# Altium schematic symbol library Connector_Generic.SchLib: 334 symbols (part 2 of 8)
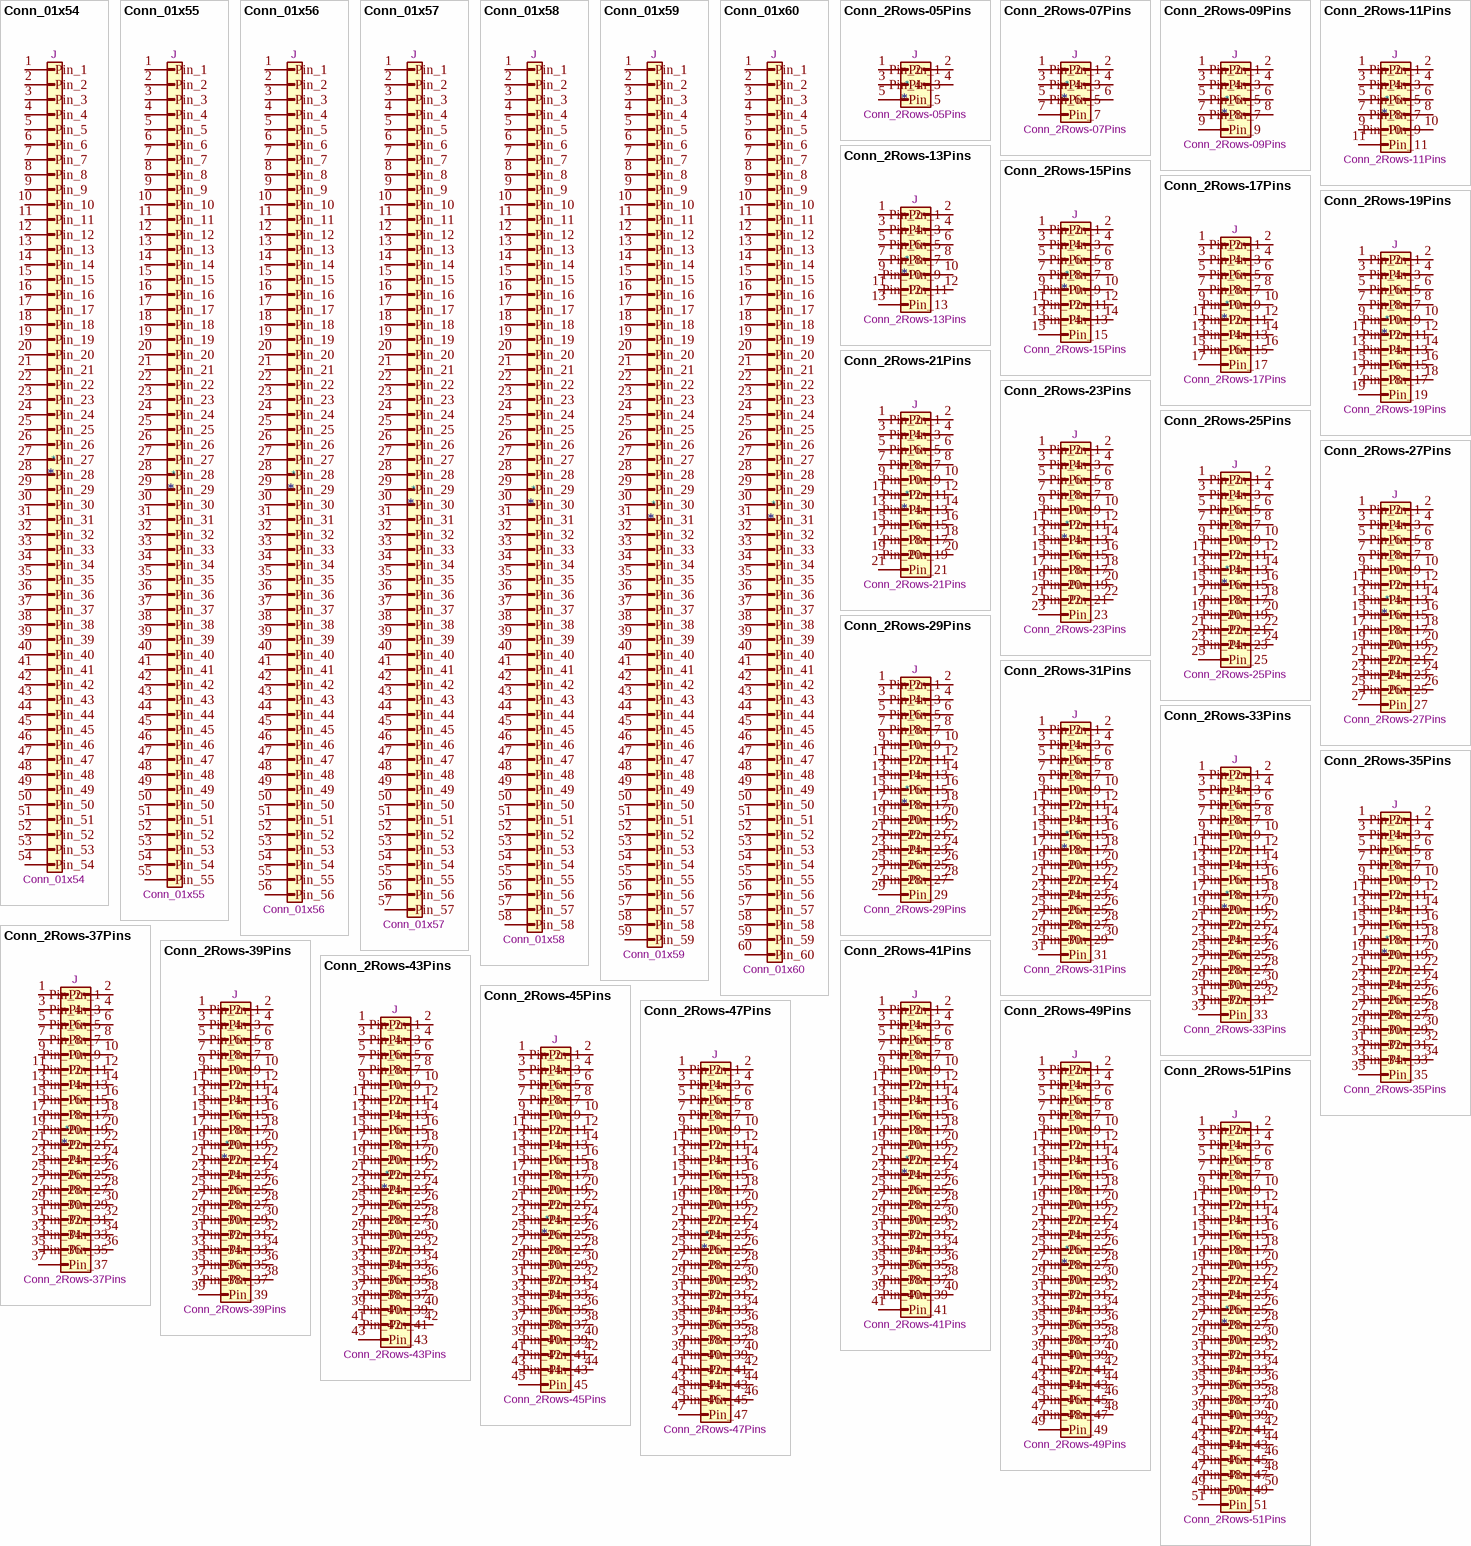
[diagram p17: symbols Conn_01x54 to Conn_2Rows-51Pins]

## Conn_2Rows-31Pins
designator *  value Conn_2Rows-31Pins  Reference: J
Generic connector, double row, 31 pins, odd/even pin numbering scheme (row 1 odd numbers, row 2 even numbers), script generated (kicad-library-utils/schlib/autogen/connector/); ki_fp_filters: Connector*:*2Rows*Pins__* *FCC*2Rows*Pins__*; Datasheet: ~; Description_: Generic connector, double row, 31 pins, odd/even pin numbering scheme (row 1 odd numbers, row 2 even numbers), script generated (kicad-library-utils/schlib/autogen/connector/); ki_keywords: connector
pins: 1 Pin_1, 2 Pin_2, 3 Pin_3, 4 Pin_4, 5 Pin_5, 6 Pin_6, 7 Pin_7, 8 Pin_8, 9 Pin_9, 10 Pin_10, 11 Pin_11, 12 Pin_12, 13 Pin_13, 14 Pin_14, 15 Pin_15, 16 Pin_16, 17 Pin_17, 18 Pin_18, 19 Pin_19, 20 Pin_20, 21 Pin_21, 22 Pin_22, 23 Pin_23, 24 Pin_24, 25 Pin_25, 26 Pin_26, 27 Pin_27, 28 Pin_28, 29 Pin_29, 30 Pin_30, 31 Pin_31

## Conn_2Rows-33Pins
designator *  value Conn_2Rows-33Pins  Reference: J
Generic connector, double row, 33 pins, odd/even pin numbering scheme (row 1 odd numbers, row 2 even numbers), script generated (kicad-library-utils/schlib/autogen/connector/); ki_fp_filters: Connector*:*2Rows*Pins__* *FCC*2Rows*Pins__*; Datasheet: ~; Description_: Generic connector, double row, 33 pins, odd/even pin numbering scheme (row 1 odd numbers, row 2 even numbers), script generated (kicad-library-utils/schlib/autogen/connector/); ki_keywords: connector
pins: 1 Pin_1, 2 Pin_2, 3 Pin_3, 4 Pin_4, 5 Pin_5, 6 Pin_6, 7 Pin_7, 8 Pin_8, 9 Pin_9, 10 Pin_10, 11 Pin_11, 12 Pin_12, 13 Pin_13, 14 Pin_14, 15 Pin_15, 16 Pin_16, 17 Pin_17, 18 Pin_18, 19 Pin_19, 20 Pin_20, 21 Pin_21, 22 Pin_22, 23 Pin_23, 24 Pin_24, 25 Pin_25, 26 Pin_26, 27 Pin_27, 28 Pin_28, 29 Pin_29, 30 Pin_30, 31 Pin_31, 32 Pin_32, 33 Pin_33

## Conn_2Rows-35Pins
designator *  value Conn_2Rows-35Pins  Reference: J
Generic connector, double row, 35 pins, odd/even pin numbering scheme (row 1 odd numbers, row 2 even numbers), script generated (kicad-library-utils/schlib/autogen/connector/); ki_fp_filters: Connector*:*2Rows*Pins__* *FCC*2Rows*Pins__*; Datasheet: ~; Description_: Generic connector, double row, 35 pins, odd/even pin numbering scheme (row 1 odd numbers, row 2 even numbers), script generated (kicad-library-utils/schlib/autogen/connector/); ki_keywords: connector
pins: 1 Pin_1, 2 Pin_2, 3 Pin_3, 4 Pin_4, 5 Pin_5, 6 Pin_6, 7 Pin_7, 8 Pin_8, 9 Pin_9, 10 Pin_10, 11 Pin_11, 12 Pin_12, 13 Pin_13, 14 Pin_14, 15 Pin_15, 16 Pin_16, 17 Pin_17, 18 Pin_18, 19 Pin_19, 20 Pin_20, 21 Pin_21, 22 Pin_22, 23 Pin_23, 24 Pin_24, 25 Pin_25, 26 Pin_26, 27 Pin_27, 28 Pin_28, 29 Pin_29, 30 Pin_30, 31 Pin_31, 32 Pin_32, 33 Pin_33, 34 Pin_34, 35 Pin_35

## Conn_2Rows-37Pins
designator *  value Conn_2Rows-37Pins  Reference: J
Generic connector, double row, 37 pins, odd/even pin numbering scheme (row 1 odd numbers, row 2 even numbers), script generated (kicad-library-utils/schlib/autogen/connector/); ki_fp_filters: Connector*:*2Rows*Pins__* *FCC*2Rows*Pins__*; Datasheet: ~; Description_: Generic connector, double row, 37 pins, odd/even pin numbering scheme (row 1 odd numbers, row 2 even numbers), script generated (kicad-library-utils/schlib/autogen/connector/); ki_keywords: connector
pins: 1 Pin_1, 2 Pin_2, 3 Pin_3, 4 Pin_4, 5 Pin_5, 6 Pin_6, 7 Pin_7, 8 Pin_8, 9 Pin_9, 10 Pin_10, 11 Pin_11, 12 Pin_12, 13 Pin_13, 14 Pin_14, 15 Pin_15, 16 Pin_16, 17 Pin_17, 18 Pin_18, 19 Pin_19, 20 Pin_20, 21 Pin_21, 22 Pin_22, 23 Pin_23, 24 Pin_24, 25 Pin_25, 26 Pin_26, 27 Pin_27, 28 Pin_28, 29 Pin_29, 30 Pin_30, 31 Pin_31, 32 Pin_32, 33 Pin_33, 34 Pin_34, 35 Pin_35, 36 Pin_36, 37 Pin_37

## Conn_2Rows-39Pins
designator *  value Conn_2Rows-39Pins  Reference: J
Generic connector, double row, 39 pins, odd/even pin numbering scheme (row 1 odd numbers, row 2 even numbers), script generated (kicad-library-utils/schlib/autogen/connector/); ki_fp_filters: Connector*:*2Rows*Pins__* *FCC*2Rows*Pins__*; Datasheet: ~; Description_: Generic connector, double row, 39 pins, odd/even pin numbering scheme (row 1 odd numbers, row 2 even numbers), script generated (kicad-library-utils/schlib/autogen/connector/); ki_keywords: connector
pins: 1 Pin_1, 2 Pin_2, 3 Pin_3, 4 Pin_4, 5 Pin_5, 6 Pin_6, 7 Pin_7, 8 Pin_8, 9 Pin_9, 10 Pin_10, 11 Pin_11, 12 Pin_12, 13 Pin_13, 14 Pin_14, 15 Pin_15, 16 Pin_16, 17 Pin_17, 18 Pin_18, 19 Pin_19, 20 Pin_20, 21 Pin_21, 22 Pin_22, 23 Pin_23, 24 Pin_24, 25 Pin_25, 26 Pin_26, 27 Pin_27, 28 Pin_28, 29 Pin_29, 30 Pin_30, 31 Pin_31, 32 Pin_32, 33 Pin_33, 34 Pin_34, 35 Pin_35, 36 Pin_36, 37 Pin_37, 38 Pin_38, 39 Pin_39

## Conn_2Rows-41Pins
designator *  value Conn_2Rows-41Pins  Reference: J
Generic connector, double row, 41 pins, odd/even pin numbering scheme (row 1 odd numbers, row 2 even numbers), script generated (kicad-library-utils/schlib/autogen/connector/); ki_fp_filters: Connector*:*2Rows*Pins__* *FCC*2Rows*Pins__*; Datasheet: ~; Description_: Generic connector, double row, 41 pins, odd/even pin numbering scheme (row 1 odd numbers, row 2 even numbers), script generated (kicad-library-utils/schlib/autogen/connector/); ki_keywords: connector
pins: 1 Pin_1, 2 Pin_2, 3 Pin_3, 4 Pin_4, 5 Pin_5, 6 Pin_6, 7 Pin_7, 8 Pin_8, 9 Pin_9, 10 Pin_10, 11 Pin_11, 12 Pin_12, 13 Pin_13, 14 Pin_14, 15 Pin_15, 16 Pin_16, 17 Pin_17, 18 Pin_18, 19 Pin_19, 20 Pin_20, 21 Pin_21, 22 Pin_22, 23 Pin_23, 24 Pin_24, 25 Pin_25, 26 Pin_26, 27 Pin_27, 28 Pin_28, 29 Pin_29, 30 Pin_30, 31 Pin_31, 32 Pin_32, 33 Pin_33, 34 Pin_34, 35 Pin_35, 36 Pin_36, 37 Pin_37, 38 Pin_38, 39 Pin_39, 40 Pin_40, 41 Pin_41

## Conn_2Rows-43Pins
designator *  value Conn_2Rows-43Pins  Reference: J
Generic connector, double row, 43 pins, odd/even pin numbering scheme (row 1 odd numbers, row 2 even numbers), script generated (kicad-library-utils/schlib/autogen/connector/); ki_fp_filters: Connector*:*2Rows*Pins__* *FCC*2Rows*Pins__*; Datasheet: ~; Description_: Generic connector, double row, 43 pins, odd/even pin numbering scheme (row 1 odd numbers, row 2 even numbers), script generated (kicad-library-utils/schlib/autogen/connector/); ki_keywords: connector
pins: 1 Pin_1, 2 Pin_2, 3 Pin_3, 4 Pin_4, 5 Pin_5, 6 Pin_6, 7 Pin_7, 8 Pin_8, 9 Pin_9, 10 Pin_10, 11 Pin_11, 12 Pin_12, 13 Pin_13, 14 Pin_14, 15 Pin_15, 16 Pin_16, 17 Pin_17, 18 Pin_18, 19 Pin_19, 20 Pin_20, 21 Pin_21, 22 Pin_22, 23 Pin_23, 24 Pin_24, 25 Pin_25, 26 Pin_26, 27 Pin_27, 28 Pin_28, 29 Pin_29, 30 Pin_30, 31 Pin_31, 32 Pin_32, 33 Pin_33, 34 Pin_34, 35 Pin_35, 36 Pin_36, 37 Pin_37, 38 Pin_38, 39 Pin_39, 40 Pin_40, 41 Pin_41, 42 Pin_42, 43 Pin_43

## Conn_2Rows-45Pins
designator *  value Conn_2Rows-45Pins  Reference: J
Generic connector, double row, 45 pins, odd/even pin numbering scheme (row 1 odd numbers, row 2 even numbers), script generated (kicad-library-utils/schlib/autogen/connector/); ki_fp_filters: Connector*:*2Rows*Pins__* *FCC*2Rows*Pins__*; Datasheet: ~; Description_: Generic connector, double row, 45 pins, odd/even pin numbering scheme (row 1 odd numbers, row 2 even numbers), script generated (kicad-library-utils/schlib/autogen/connector/); ki_keywords: connector
pins: 1 Pin_1, 2 Pin_2, 3 Pin_3, 4 Pin_4, 5 Pin_5, 6 Pin_6, 7 Pin_7, 8 Pin_8, 9 Pin_9, 10 Pin_10, 11 Pin_11, 12 Pin_12, 13 Pin_13, 14 Pin_14, 15 Pin_15, 16 Pin_16, 17 Pin_17, 18 Pin_18, 19 Pin_19, 20 Pin_20, 21 Pin_21, 22 Pin_22, 23 Pin_23, 24 Pin_24, 25 Pin_25, 26 Pin_26, 27 Pin_27, 28 Pin_28, 29 Pin_29, 30 Pin_30, 31 Pin_31, 32 Pin_32, 33 Pin_33, 34 Pin_34, 35 Pin_35, 36 Pin_36, 37 Pin_37, 38 Pin_38, 39 Pin_39, 40 Pin_40, 41 Pin_41, 42 Pin_42, 43 Pin_43, 44 Pin_44, 45 Pin_45

## Conn_2Rows-47Pins
designator *  value Conn_2Rows-47Pins  Reference: J
Generic connector, double row, 47 pins, odd/even pin numbering scheme (row 1 odd numbers, row 2 even numbers), script generated (kicad-library-utils/schlib/autogen/connector/); ki_fp_filters: Connector*:*2Rows*Pins__* *FCC*2Rows*Pins__*; Datasheet: ~; Description_: Generic connector, double row, 47 pins, odd/even pin numbering scheme (row 1 odd numbers, row 2 even numbers), script generated (kicad-library-utils/schlib/autogen/connector/); ki_keywords: connector
pins: 1 Pin_1, 2 Pin_2, 3 Pin_3, 4 Pin_4, 5 Pin_5, 6 Pin_6, 7 Pin_7, 8 Pin_8, 9 Pin_9, 10 Pin_10, 11 Pin_11, 12 Pin_12, 13 Pin_13, 14 Pin_14, 15 Pin_15, 16 Pin_16, 17 Pin_17, 18 Pin_18, 19 Pin_19, 20 Pin_20, 21 Pin_21, 22 Pin_22, 23 Pin_23, 24 Pin_24, 25 Pin_25, 26 Pin_26, 27 Pin_27, 28 Pin_28, 29 Pin_29, 30 Pin_30, 31 Pin_31, 32 Pin_32, 33 Pin_33, 34 Pin_34, 35 Pin_35, 36 Pin_36, 37 Pin_37, 38 Pin_38, 39 Pin_39, 40 Pin_40, 41 Pin_41, 42 Pin_42, 43 Pin_43, 44 Pin_44, 45 Pin_45, 46 Pin_46, 47 Pin_47

## Conn_2Rows-49Pins
designator *  value Conn_2Rows-49Pins  Reference: J
Generic connector, double row, 49 pins, odd/even pin numbering scheme (row 1 odd numbers, row 2 even numbers), script generated (kicad-library-utils/schlib/autogen/connector/); ki_fp_filters: Connector*:*2Rows*Pins__* *FCC*2Rows*Pins__*; Datasheet: ~; Description_: Generic connector, double row, 49 pins, odd/even pin numbering scheme (row 1 odd numbers, row 2 even numbers), script generated (kicad-library-utils/schlib/autogen/connector/); ki_keywords: connector
pins: 1 Pin_1, 2 Pin_2, 3 Pin_3, 4 Pin_4, 5 Pin_5, 6 Pin_6, 7 Pin_7, 8 Pin_8, 9 Pin_9, 10 Pin_10, 11 Pin_11, 12 Pin_12, 13 Pin_13, 14 Pin_14, 15 Pin_15, 16 Pin_16, 17 Pin_17, 18 Pin_18, 19 Pin_19, 20 Pin_20, 21 Pin_21, 22 Pin_22, 23 Pin_23, 24 Pin_24, 25 Pin_25, 26 Pin_26, 27 Pin_27, 28 Pin_28, 29 Pin_29, 30 Pin_30, 31 Pin_31, 32 Pin_32, 33 Pin_33, 34 Pin_34, 35 Pin_35, 36 Pin_36, 37 Pin_37, 38 Pin_38, 39 Pin_39, 40 Pin_40, 41 Pin_41, 42 Pin_42, 43 Pin_43, 44 Pin_44, 45 Pin_45, 46 Pin_46, 47 Pin_47, 48 Pin_48, 49 Pin_49

## Conn_2Rows-51Pins
designator *  value Conn_2Rows-51Pins  Reference: J
Generic connector, double row, 51 pins, odd/even pin numbering scheme (row 1 odd numbers, row 2 even numbers), script generated (kicad-library-utils/schlib/autogen/connector/); ki_fp_filters: Connector*:*2Rows*Pins__* *FCC*2Rows*Pins__*; Datasheet: ~; Description_: Generic connector, double row, 51 pins, odd/even pin numbering scheme (row 1 odd numbers, row 2 even numbers), script generated (kicad-library-utils/schlib/autogen/connector/); ki_keywords: connector
pins: 1 Pin_1, 2 Pin_2, 3 Pin_3, 4 Pin_4, 5 Pin_5, 6 Pin_6, 7 Pin_7, 8 Pin_8, 9 Pin_9, 10 Pin_10, 11 Pin_11, 12 Pin_12, 13 Pin_13, 14 Pin_14, 15 Pin_15, 16 Pin_16, 17 Pin_17, 18 Pin_18, 19 Pin_19, 20 Pin_20, 21 Pin_21, 22 Pin_22, 23 Pin_23, 24 Pin_24, 25 Pin_25, 26 Pin_26, 27 Pin_27, 28 Pin_28, 29 Pin_29, 30 Pin_30, 31 Pin_31, 32 Pin_32, 33 Pin_33, 34 Pin_34, 35 Pin_35, 36 Pin_36, 37 Pin_37, 38 Pin_38, 39 Pin_39, 40 Pin_40, 41 Pin_41, 42 Pin_42, 43 Pin_43, 44 Pin_44, 45 Pin_45, 46 Pin_46, 47 Pin_47, 48 Pin_48, 49 Pin_49, 50 Pin_50, 51 Pin_51

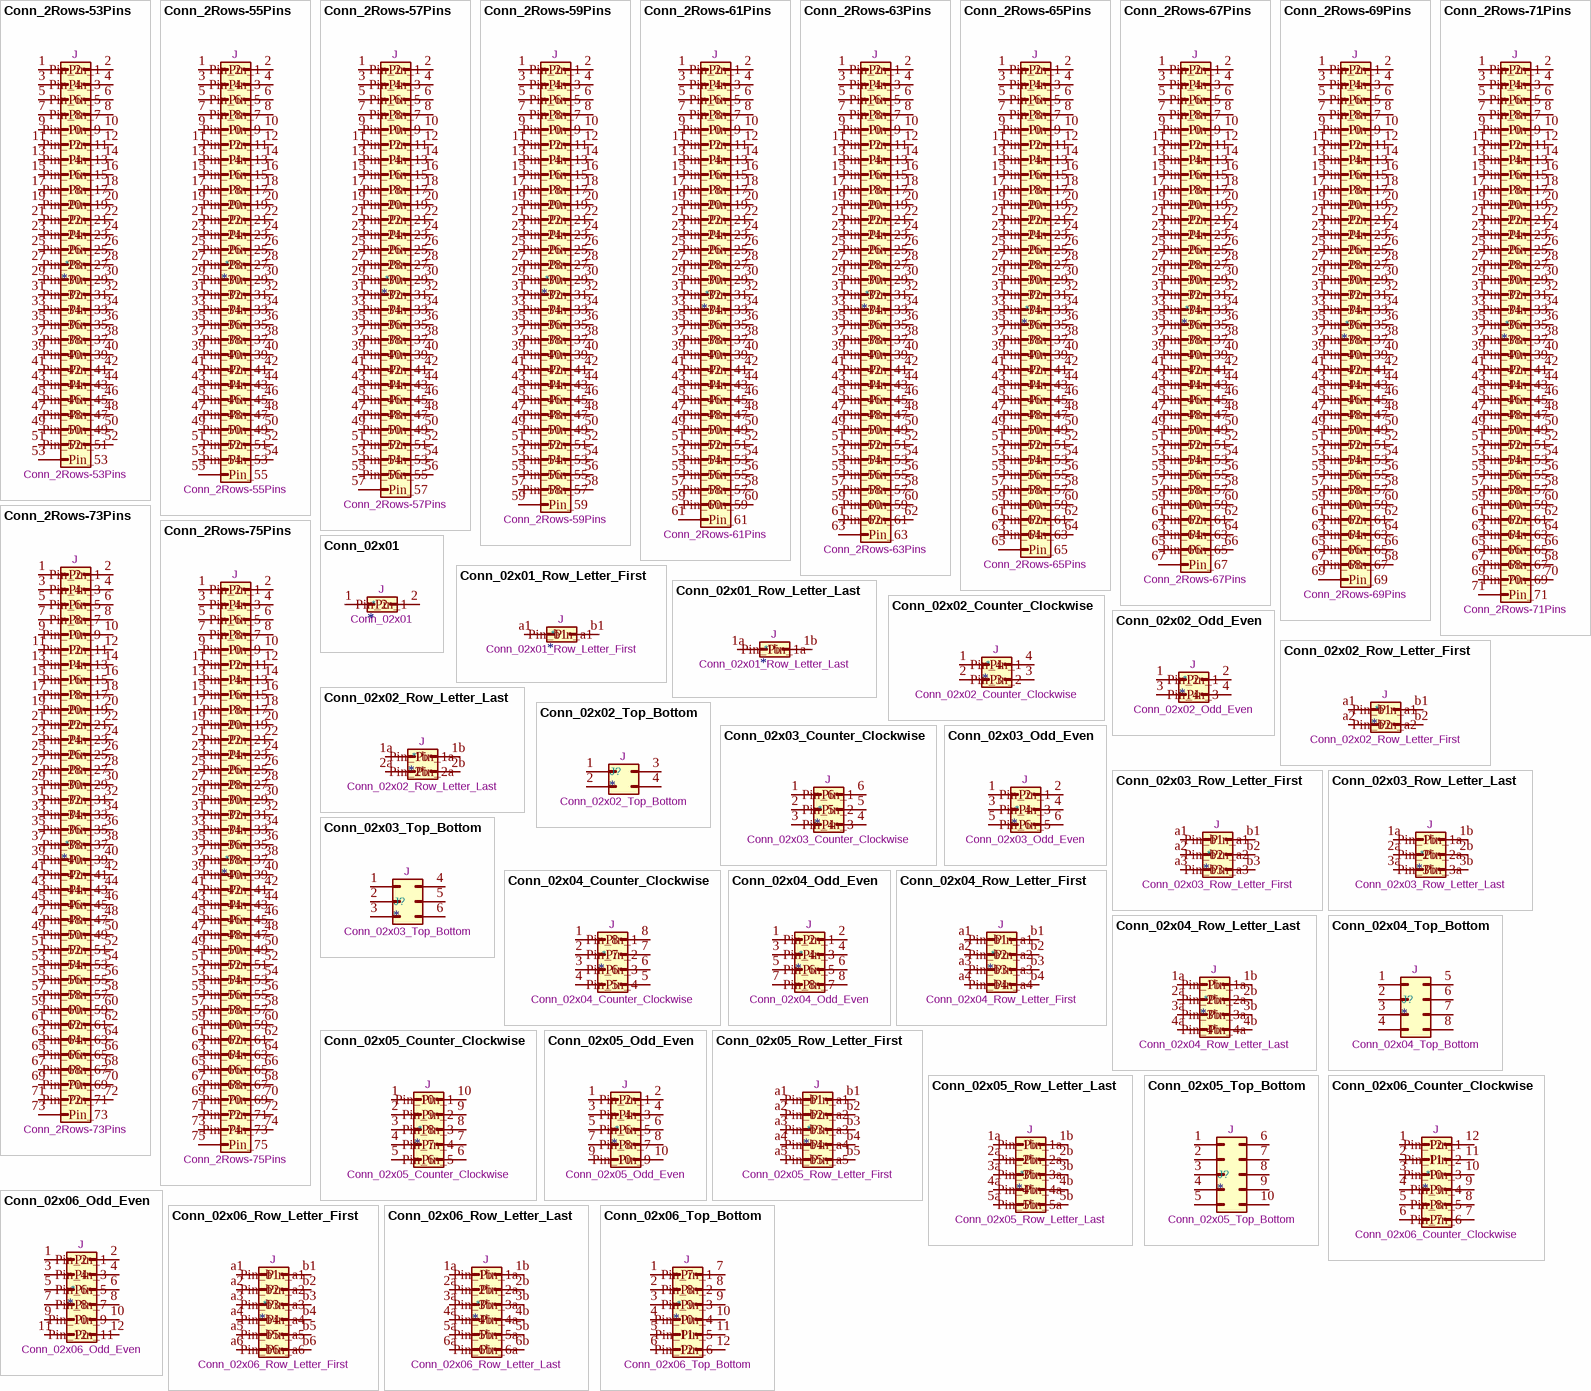
[diagram p3: symbols Conn_2Rows-53Pins to Conn_02x06_Top_Bottom]

## Conn_2Rows-53Pins
designator *  value Conn_2Rows-53Pins  Reference: J
Generic connector, double row, 53 pins, odd/even pin numbering scheme (row 1 odd numbers, row 2 even numbers), script generated (kicad-library-utils/schlib/autogen/connector/); ki_fp_filters: Connector*:*2Rows*Pins__* *FCC*2Rows*Pins__*; Datasheet: ~; Description_: Generic connector, double row, 53 pins, odd/even pin numbering scheme (row 1 odd numbers, row 2 even numbers), script generated (kicad-library-utils/schlib/autogen/connector/); ki_keywords: connector
pins: 1 Pin_1, 2 Pin_2, 3 Pin_3, 4 Pin_4, 5 Pin_5, 6 Pin_6, 7 Pin_7, 8 Pin_8, 9 Pin_9, 10 Pin_10, 11 Pin_11, 12 Pin_12, 13 Pin_13, 14 Pin_14, 15 Pin_15, 16 Pin_16, 17 Pin_17, 18 Pin_18, 19 Pin_19, 20 Pin_20, 21 Pin_21, 22 Pin_22, 23 Pin_23, 24 Pin_24, 25 Pin_25, 26 Pin_26, 27 Pin_27, 28 Pin_28, 29 Pin_29, 30 Pin_30, 31 Pin_31, 32 Pin_32, 33 Pin_33, 34 Pin_34, 35 Pin_35, 36 Pin_36, 37 Pin_37, 38 Pin_38, 39 Pin_39, 40 Pin_40, 41 Pin_41, 42 Pin_42, 43 Pin_43, 44 Pin_44, 45 Pin_45, 46 Pin_46, 47 Pin_47, 48 Pin_48, 49 Pin_49, 50 Pin_50, 51 Pin_51, 52 Pin_52, 53 Pin_53

## Conn_2Rows-55Pins
designator *  value Conn_2Rows-55Pins  Reference: J
Generic connector, double row, 55 pins, odd/even pin numbering scheme (row 1 odd numbers, row 2 even numbers), script generated (kicad-library-utils/schlib/autogen/connector/); ki_fp_filters: Connector*:*2Rows*Pins__* *FCC*2Rows*Pins__*; Datasheet: ~; Description_: Generic connector, double row, 55 pins, odd/even pin numbering scheme (row 1 odd numbers, row 2 even numbers), script generated (kicad-library-utils/schlib/autogen/connector/); ki_keywords: connector
pins: 1 Pin_1, 2 Pin_2, 3 Pin_3, 4 Pin_4, 5 Pin_5, 6 Pin_6, 7 Pin_7, 8 Pin_8, 9 Pin_9, 10 Pin_10, 11 Pin_11, 12 Pin_12, 13 Pin_13, 14 Pin_14, 15 Pin_15, 16 Pin_16, 17 Pin_17, 18 Pin_18, 19 Pin_19, 20 Pin_20, 21 Pin_21, 22 Pin_22, 23 Pin_23, 24 Pin_24, 25 Pin_25, 26 Pin_26, 27 Pin_27, 28 Pin_28, 29 Pin_29, 30 Pin_30, 31 Pin_31, 32 Pin_32, 33 Pin_33, 34 Pin_34, 35 Pin_35, 36 Pin_36, 37 Pin_37, 38 Pin_38, 39 Pin_39, 40 Pin_40, 41 Pin_41, 42 Pin_42, 43 Pin_43, 44 Pin_44, 45 Pin_45, 46 Pin_46, 47 Pin_47, 48 Pin_48, 49 Pin_49, 50 Pin_50, 51 Pin_51, 52 Pin_52, 53 Pin_53, 54 Pin_54, 55 Pin_55

## Conn_2Rows-57Pins
designator *  value Conn_2Rows-57Pins  Reference: J
Generic connector, double row, 57 pins, odd/even pin numbering scheme (row 1 odd numbers, row 2 even numbers), script generated (kicad-library-utils/schlib/autogen/connector/); ki_fp_filters: Connector*:*2Rows*Pins__* *FCC*2Rows*Pins__*; Datasheet: ~; Description_: Generic connector, double row, 57 pins, odd/even pin numbering scheme (row 1 odd numbers, row 2 even numbers), script generated (kicad-library-utils/schlib/autogen/connector/); ki_keywords: connector
pins: 1 Pin_1, 2 Pin_2, 3 Pin_3, 4 Pin_4, 5 Pin_5, 6 Pin_6, 7 Pin_7, 8 Pin_8, 9 Pin_9, 10 Pin_10, 11 Pin_11, 12 Pin_12, 13 Pin_13, 14 Pin_14, 15 Pin_15, 16 Pin_16, 17 Pin_17, 18 Pin_18, 19 Pin_19, 20 Pin_20, 21 Pin_21, 22 Pin_22, 23 Pin_23, 24 Pin_24, 25 Pin_25, 26 Pin_26, 27 Pin_27, 28 Pin_28, 29 Pin_29, 30 Pin_30, 31 Pin_31, 32 Pin_32, 33 Pin_33, 34 Pin_34, 35 Pin_35, 36 Pin_36, 37 Pin_37, 38 Pin_38, 39 Pin_39, 40 Pin_40, 41 Pin_41, 42 Pin_42, 43 Pin_43, 44 Pin_44, 45 Pin_45, 46 Pin_46, 47 Pin_47, 48 Pin_48, 49 Pin_49, 50 Pin_50, 51 Pin_51, 52 Pin_52, 53 Pin_53, 54 Pin_54, 55 Pin_55, 56 Pin_56, 57 Pin_57

## Conn_2Rows-59Pins
designator *  value Conn_2Rows-59Pins  Reference: J
Generic connector, double row, 59 pins, odd/even pin numbering scheme (row 1 odd numbers, row 2 even numbers), script generated (kicad-library-utils/schlib/autogen/connector/); ki_fp_filters: Connector*:*2Rows*Pins__* *FCC*2Rows*Pins__*; Datasheet: ~; Description_: Generic connector, double row, 59 pins, odd/even pin numbering scheme (row 1 odd numbers, row 2 even numbers), script generated (kicad-library-utils/schlib/autogen/connector/); ki_keywords: connector
pins: 1 Pin_1, 2 Pin_2, 3 Pin_3, 4 Pin_4, 5 Pin_5, 6 Pin_6, 7 Pin_7, 8 Pin_8, 9 Pin_9, 10 Pin_10, 11 Pin_11, 12 Pin_12, 13 Pin_13, 14 Pin_14, 15 Pin_15, 16 Pin_16, 17 Pin_17, 18 Pin_18, 19 Pin_19, 20 Pin_20, 21 Pin_21, 22 Pin_22, 23 Pin_23, 24 Pin_24, 25 Pin_25, 26 Pin_26, 27 Pin_27, 28 Pin_28, 29 Pin_29, 30 Pin_30, 31 Pin_31, 32 Pin_32, 33 Pin_33, 34 Pin_34, 35 Pin_35, 36 Pin_36, 37 Pin_37, 38 Pin_38, 39 Pin_39, 40 Pin_40, 41 Pin_41, 42 Pin_42, 43 Pin_43, 44 Pin_44, 45 Pin_45, 46 Pin_46, 47 Pin_47, 48 Pin_48, 49 Pin_49, 50 Pin_50, 51 Pin_51, 52 Pin_52, 53 Pin_53, 54 Pin_54, 55 Pin_55, 56 Pin_56, 57 Pin_57, 58 Pin_58, 59 Pin_59

## Conn_2Rows-61Pins
designator *  value Conn_2Rows-61Pins  Reference: J
Generic connector, double row, 61 pins, odd/even pin numbering scheme (row 1 odd numbers, row 2 even numbers), script generated (kicad-library-utils/schlib/autogen/connector/); ki_fp_filters: Connector*:*2Rows*Pins__* *FCC*2Rows*Pins__*; Datasheet: ~; Description_: Generic connector, double row, 61 pins, odd/even pin numbering scheme (row 1 odd numbers, row 2 even numbers), script generated (kicad-library-utils/schlib/autogen/connector/); ki_keywords: connector
pins: 1 Pin_1, 2 Pin_2, 3 Pin_3, 4 Pin_4, 5 Pin_5, 6 Pin_6, 7 Pin_7, 8 Pin_8, 9 Pin_9, 10 Pin_10, 11 Pin_11, 12 Pin_12, 13 Pin_13, 14 Pin_14, 15 Pin_15, 16 Pin_16, 17 Pin_17, 18 Pin_18, 19 Pin_19, 20 Pin_20, 21 Pin_21, 22 Pin_22, 23 Pin_23, 24 Pin_24, 25 Pin_25, 26 Pin_26, 27 Pin_27, 28 Pin_28, 29 Pin_29, 30 Pin_30, 31 Pin_31, 32 Pin_32, 33 Pin_33, 34 Pin_34, 35 Pin_35, 36 Pin_36, 37 Pin_37, 38 Pin_38, 39 Pin_39, 40 Pin_40, 41 Pin_41, 42 Pin_42, 43 Pin_43, 44 Pin_44, 45 Pin_45, 46 Pin_46, 47 Pin_47, 48 Pin_48, 49 Pin_49, 50 Pin_50, 51 Pin_51, 52 Pin_52, 53 Pin_53, 54 Pin_54, 55 Pin_55, 56 Pin_56, 57 Pin_57, 58 Pin_58, 59 Pin_59, 60 Pin_60, 61 Pin_61

## Conn_2Rows-63Pins
designator *  value Conn_2Rows-63Pins  Reference: J
Generic connector, double row, 63 pins, odd/even pin numbering scheme (row 1 odd numbers, row 2 even numbers), script generated (kicad-library-utils/schlib/autogen/connector/); ki_fp_filters: Connector*:*2Rows*Pins__* *FCC*2Rows*Pins__*; Datasheet: ~; Description_: Generic connector, double row, 63 pins, odd/even pin numbering scheme (row 1 odd numbers, row 2 even numbers), script generated (kicad-library-utils/schlib/autogen/connector/); ki_keywords: connector
pins: 1 Pin_1, 2 Pin_2, 3 Pin_3, 4 Pin_4, 5 Pin_5, 6 Pin_6, 7 Pin_7, 8 Pin_8, 9 Pin_9, 10 Pin_10, 11 Pin_11, 12 Pin_12, 13 Pin_13, 14 Pin_14, 15 Pin_15, 16 Pin_16, 17 Pin_17, 18 Pin_18, 19 Pin_19, 20 Pin_20, 21 Pin_21, 22 Pin_22, 23 Pin_23, 24 Pin_24, 25 Pin_25, 26 Pin_26, 27 Pin_27, 28 Pin_28, 29 Pin_29, 30 Pin_30, 31 Pin_31, 32 Pin_32, 33 Pin_33, 34 Pin_34, 35 Pin_35, 36 Pin_36, 37 Pin_37, 38 Pin_38, 39 Pin_39, 40 Pin_40, 41 Pin_41, 42 Pin_42, 43 Pin_43, 44 Pin_44, 45 Pin_45, 46 Pin_46, 47 Pin_47, 48 Pin_48, 49 Pin_49, 50 Pin_50, 51 Pin_51, 52 Pin_52, 53 Pin_53, 54 Pin_54, 55 Pin_55, 56 Pin_56, 57 Pin_57, 58 Pin_58, 59 Pin_59, 60 Pin_60, 61 Pin_61, 62 Pin_62, 63 Pin_63

## Conn_2Rows-65Pins
designator *  value Conn_2Rows-65Pins  Reference: J
Generic connector, double row, 65 pins, odd/even pin numbering scheme (row 1 odd numbers, row 2 even numbers), script generated (kicad-library-utils/schlib/autogen/connector/); ki_fp_filters: Connector*:*2Rows*Pins__* *FCC*2Rows*Pins__*; Datasheet: ~; Description_: Generic connector, double row, 65 pins, odd/even pin numbering scheme (row 1 odd numbers, row 2 even numbers), script generated (kicad-library-utils/schlib/autogen/connector/); ki_keywords: connector
pins: 1 Pin_1, 2 Pin_2, 3 Pin_3, 4 Pin_4, 5 Pin_5, 6 Pin_6, 7 Pin_7, 8 Pin_8, 9 Pin_9, 10 Pin_10, 11 Pin_11, 12 Pin_12, 13 Pin_13, 14 Pin_14, 15 Pin_15, 16 Pin_16, 17 Pin_17, 18 Pin_18, 19 Pin_19, 20 Pin_20, 21 Pin_21, 22 Pin_22, 23 Pin_23, 24 Pin_24, 25 Pin_25, 26 Pin_26, 27 Pin_27, 28 Pin_28, 29 Pin_29, 30 Pin_30, 31 Pin_31, 32 Pin_32, 33 Pin_33, 34 Pin_34, 35 Pin_35, 36 Pin_36, 37 Pin_37, 38 Pin_38, 39 Pin_39, 40 Pin_40, 41 Pin_41, 42 Pin_42, 43 Pin_43, 44 Pin_44, 45 Pin_45, 46 Pin_46, 47 Pin_47, 48 Pin_48, 49 Pin_49, 50 Pin_50, 51 Pin_51, 52 Pin_52, 53 Pin_53, 54 Pin_54, 55 Pin_55, 56 Pin_56, 57 Pin_57, 58 Pin_58, 59 Pin_59, 60 Pin_60, 61 Pin_61, 62 Pin_62, 63 Pin_63, 64 Pin_64, 65 Pin_65

## Conn_2Rows-67Pins
designator *  value Conn_2Rows-67Pins  Reference: J
Generic connector, double row, 67 pins, odd/even pin numbering scheme (row 1 odd numbers, row 2 even numbers), script generated (kicad-library-utils/schlib/autogen/connector/); ki_fp_filters: Connector*:*2Rows*Pins__* *FCC*2Rows*Pins__*; Datasheet: ~; Description_: Generic connector, double row, 67 pins, odd/even pin numbering scheme (row 1 odd numbers, row 2 even numbers), script generated (kicad-library-utils/schlib/autogen/connector/); ki_keywords: connector
pins: 1 Pin_1, 2 Pin_2, 3 Pin_3, 4 Pin_4, 5 Pin_5, 6 Pin_6, 7 Pin_7, 8 Pin_8, 9 Pin_9, 10 Pin_10, 11 Pin_11, 12 Pin_12, 13 Pin_13, 14 Pin_14, 15 Pin_15, 16 Pin_16, 17 Pin_17, 18 Pin_18, 19 Pin_19, 20 Pin_20, 21 Pin_21, 22 Pin_22, 23 Pin_23, 24 Pin_24, 25 Pin_25, 26 Pin_26, 27 Pin_27, 28 Pin_28, 29 Pin_29, 30 Pin_30, 31 Pin_31, 32 Pin_32, 33 Pin_33, 34 Pin_34, 35 Pin_35, 36 Pin_36, 37 Pin_37, 38 Pin_38, 39 Pin_39, 40 Pin_40, 41 Pin_41, 42 Pin_42, 43 Pin_43, 44 Pin_44, 45 Pin_45, 46 Pin_46, 47 Pin_47, 48 Pin_48, 49 Pin_49, 50 Pin_50, 51 Pin_51, 52 Pin_52, 53 Pin_53, 54 Pin_54, 55 Pin_55, 56 Pin_56, 57 Pin_57, 58 Pin_58, 59 Pin_59, 60 Pin_60, 61 Pin_61, 62 Pin_62, 63 Pin_63, 64 Pin_64, 65 Pin_65, 66 Pin_66, 67 Pin_67

## Conn_2Rows-69Pins
designator *  value Conn_2Rows-69Pins  Reference: J
Generic connector, double row, 69 pins, odd/even pin numbering scheme (row 1 odd numbers, row 2 even numbers), script generated (kicad-library-utils/schlib/autogen/connector/); ki_fp_filters: Connector*:*2Rows*Pins__* *FCC*2Rows*Pins__*; Datasheet: ~; Description_: Generic connector, double row, 69 pins, odd/even pin numbering scheme (row 1 odd numbers, row 2 even numbers), script generated (kicad-library-utils/schlib/autogen/connector/); ki_keywords: connector
pins: 1 Pin_1, 2 Pin_2, 3 Pin_3, 4 Pin_4, 5 Pin_5, 6 Pin_6, 7 Pin_7, 8 Pin_8, 9 Pin_9, 10 Pin_10, 11 Pin_11, 12 Pin_12, 13 Pin_13, 14 Pin_14, 15 Pin_15, 16 Pin_16, 17 Pin_17, 18 Pin_18, 19 Pin_19, 20 Pin_20, 21 Pin_21, 22 Pin_22, 23 Pin_23, 24 Pin_24, 25 Pin_25, 26 Pin_26, 27 Pin_27, 28 Pin_28, 29 Pin_29, 30 Pin_30, 31 Pin_31, 32 Pin_32, 33 Pin_33, 34 Pin_34, 35 Pin_35, 36 Pin_36, 37 Pin_37, 38 Pin_38, 39 Pin_39, 40 Pin_40, 41 Pin_41, 42 Pin_42, 43 Pin_43, 44 Pin_44, 45 Pin_45, 46 Pin_46, 47 Pin_47, 48 Pin_48, 49 Pin_49, 50 Pin_50, 51 Pin_51, 52 Pin_52, 53 Pin_53, 54 Pin_54, 55 Pin_55, 56 Pin_56, 57 Pin_57, 58 Pin_58, 59 Pin_59, 60 Pin_60, 61 Pin_61, 62 Pin_62, 63 Pin_63, 64 Pin_64, 65 Pin_65, 66 Pin_66, 67 Pin_67, 68 Pin_68, 69 Pin_69

## Conn_2Rows-71Pins
designator *  value Conn_2Rows-71Pins  Reference: J
Generic connector, double row, 71 pins, odd/even pin numbering scheme (row 1 odd numbers, row 2 even numbers), script generated (kicad-library-utils/schlib/autogen/connector/); ki_fp_filters: Connector*:*2Rows*Pins__* *FCC*2Rows*Pins__*; Datasheet: ~; Description_: Generic connector, double row, 71 pins, odd/even pin numbering scheme (row 1 odd numbers, row 2 even numbers), script generated (kicad-library-utils/schlib/autogen/connector/); ki_keywords: connector
pins: 1 Pin_1, 2 Pin_2, 3 Pin_3, 4 Pin_4, 5 Pin_5, 6 Pin_6, 7 Pin_7, 8 Pin_8, 9 Pin_9, 10 Pin_10, 11 Pin_11, 12 Pin_12, 13 Pin_13, 14 Pin_14, 15 Pin_15, 16 Pin_16, 17 Pin_17, 18 Pin_18, 19 Pin_19, 20 Pin_20, 21 Pin_21, 22 Pin_22, 23 Pin_23, 24 Pin_24, 25 Pin_25, 26 Pin_26, 27 Pin_27, 28 Pin_28, 29 Pin_29, 30 Pin_30, 31 Pin_31, 32 Pin_32, 33 Pin_33, 34 Pin_34, 35 Pin_35, 36 Pin_36, 37 Pin_37, 38 Pin_38, 39 Pin_39, 40 Pin_40, 41 Pin_41, 42 Pin_42, 43 Pin_43, 44 Pin_44, 45 Pin_45, 46 Pin_46, 47 Pin_47, 48 Pin_48, 49 Pin_49, 50 Pin_50, 51 Pin_51, 52 Pin_52, 53 Pin_53, 54 Pin_54, 55 Pin_55, 56 Pin_56, 57 Pin_57, 58 Pin_58, 59 Pin_59, 60 Pin_60, 61 Pin_61, 62 Pin_62, 63 Pin_63, 64 Pin_64, 65 Pin_65, 66 Pin_66, 67 Pin_67, 68 Pin_68, 69 Pin_69, 70 Pin_70, 71 Pin_71

## Conn_2Rows-73Pins
designator *  value Conn_2Rows-73Pins  Reference: J
Generic connector, double row, 73 pins, odd/even pin numbering scheme (row 1 odd numbers, row 2 even numbers), script generated (kicad-library-utils/schlib/autogen/connector/); ki_fp_filters: Connector*:*2Rows*Pins__* *FCC*2Rows*Pins__*; Datasheet: ~; Description_: Generic connector, double row, 73 pins, odd/even pin numbering scheme (row 1 odd numbers, row 2 even numbers), script generated (kicad-library-utils/schlib/autogen/connector/); ki_keywords: connector
pins: 1 Pin_1, 2 Pin_2, 3 Pin_3, 4 Pin_4, 5 Pin_5, 6 Pin_6, 7 Pin_7, 8 Pin_8, 9 Pin_9, 10 Pin_10, 11 Pin_11, 12 Pin_12, 13 Pin_13, 14 Pin_14, 15 Pin_15, 16 Pin_16, 17 Pin_17, 18 Pin_18, 19 Pin_19, 20 Pin_20, 21 Pin_21, 22 Pin_22, 23 Pin_23, 24 Pin_24, 25 Pin_25, 26 Pin_26, 27 Pin_27, 28 Pin_28, 29 Pin_29, 30 Pin_30, 31 Pin_31, 32 Pin_32, 33 Pin_33, 34 Pin_34, 35 Pin_35, 36 Pin_36, 37 Pin_37, 38 Pin_38, 39 Pin_39, 40 Pin_40, 41 Pin_41, 42 Pin_42, 43 Pin_43, 44 Pin_44, 45 Pin_45, 46 Pin_46, 47 Pin_47, 48 Pin_48, 49 Pin_49, 50 Pin_50, 51 Pin_51, 52 Pin_52, 53 Pin_53, 54 Pin_54, 55 Pin_55, 56 Pin_56, 57 Pin_57, 58 Pin_58, 59 Pin_59, 60 Pin_60, 61 Pin_61, 62 Pin_62, 63 Pin_63, 64 Pin_64, 65 Pin_65, 66 Pin_66, 67 Pin_67, 68 Pin_68, 69 Pin_69, 70 Pin_70, 71 Pin_71, 72 Pin_72, 73 Pin_73

## Conn_2Rows-75Pins
designator *  value Conn_2Rows-75Pins  Reference: J
Generic connector, double row, 75 pins, odd/even pin numbering scheme (row 1 odd numbers, row 2 even numbers), script generated (kicad-library-utils/schlib/autogen/connector/); ki_fp_filters: Connector*:*2Rows*Pins__* *FCC*2Rows*Pins__*; Datasheet: ~; Description_: Generic connector, double row, 75 pins, odd/even pin numbering scheme (row 1 odd numbers, row 2 even numbers), script generated (kicad-library-utils/schlib/autogen/connector/); ki_keywords: connector
pins: 1 Pin_1, 2 Pin_2, 3 Pin_3, 4 Pin_4, 5 Pin_5, 6 Pin_6, 7 Pin_7, 8 Pin_8, 9 Pin_9, 10 Pin_10, 11 Pin_11, 12 Pin_12, 13 Pin_13, 14 Pin_14, 15 Pin_15, 16 Pin_16, 17 Pin_17, 18 Pin_18, 19 Pin_19, 20 Pin_20, 21 Pin_21, 22 Pin_22, 23 Pin_23, 24 Pin_24, 25 Pin_25, 26 Pin_26, 27 Pin_27, 28 Pin_28, 29 Pin_29, 30 Pin_30, 31 Pin_31, 32 Pin_32, 33 Pin_33, 34 Pin_34, 35 Pin_35, 36 Pin_36, 37 Pin_37, 38 Pin_38, 39 Pin_39, 40 Pin_40, 41 Pin_41, 42 Pin_42, 43 Pin_43, 44 Pin_44, 45 Pin_45, 46 Pin_46, 47 Pin_47, 48 Pin_48, 49 Pin_49, 50 Pin_50, 51 Pin_51, 52 Pin_52, 53 Pin_53, 54 Pin_54, 55 Pin_55, 56 Pin_56, 57 Pin_57, 58 Pin_58, 59 Pin_59, 60 Pin_60, 61 Pin_61, 62 Pin_62, 63 Pin_63, 64 Pin_64, 65 Pin_65, 66 Pin_66, 67 Pin_67, 68 Pin_68, 69 Pin_69, 70 Pin_70, 71 Pin_71, 72 Pin_72, 73 Pin_73, 74 Pin_74, 75 Pin_75

## Conn_02x01
designator *  value Conn_02x01  Reference: J
Generic connector, double row, 02x01, this symbol is compatible with counter-clockwise, top-bottom and odd-even numbering schemes., script generated (kicad-library-utils/schlib/autogen/connector/); ki_fp_filters: Connector*:*_2x??_*; Datasheet: ~; Description_: Generic connector, double row, 02x01, this symbol is compatible with counter-clockwise, top-bottom and odd-even numbering schemes., script generated (kicad-library-utils/schlib/autogen/connector/); ki_keywords: connector
pins: 1 Pin_1, 2 Pin_2

## Conn_02x01_Row_Letter_First
designator *  value Conn_02x01_Row_Letter_First  Reference: J
Generic connector, double row, 02x01, row letter first pin numbering scheme (pin number consists of a letter for the row and a number for the pin index in this row. a1, ..., aN; b1, ..., bN), script generated (kicad-library-utils/schlib/autogen/connector/); ki_fp_filters: Connector*:*_2x??_*; Datasheet: ~; Description_: Generic connector, double row, 02x01, row letter first pin numbering scheme (pin number consists of a letter for the row and a number for the pin index in this row. a1, ..., aN; b1, ..., bN), script generated (kicad-library-utils/schlib/autogen/connector/); ki_keywords: connector
pins: a1 Pin_a1, b1 Pin_b1

## Conn_02x01_Row_Letter_Last
designator *  value Conn_02x01_Row_Letter_Last  Reference: J
Generic connector, double row, 02x01, row letter last pin numbering scheme (pin number consists of a letter for the row and a number for the pin index in this row. 1a, ..., Na; 1b, ..., Nb)), script generated (kicad-library-utils/schlib/autogen/connector/); ki_fp_filters: Connector*:*_2x??_*; Datasheet: ~; Description_: Generic connector, double row, 02x01, row letter last pin numbering scheme (pin number consists of a letter for the row and a number for the pin index in this row. 1a, ..., Na; 1b, ..., Nb)), script generated (kicad-library-utils/schlib/autogen/connector/); ki_keywords: connector
pins: 1a Pin_1a, 1b Pin_1b

## Conn_02x02_Counter_Clockwise
designator *  value Conn_02x02_Counter_Clockwise  Reference: J
Generic connector, double row, 02x02, counter clockwise pin numbering scheme (similar to DIP package numbering), script generated (kicad-library-utils/schlib/autogen/connector/); ki_fp_filters: Connector*:*_2x??_*; Datasheet: ~; Description_: Generic connector, double row, 02x02, counter clockwise pin numbering scheme (similar to DIP package numbering), script generated (kicad-library-utils/schlib/autogen/connector/); ki_keywords: connector
pins: 1 Pin_1, 2 Pin_2, 3 Pin_3, 4 Pin_4

## Conn_02x02_Odd_Even
designator *  value Conn_02x02_Odd_Even  Reference: J
Generic connector, double row, 02x02, odd/even pin numbering scheme (row 1 odd numbers, row 2 even numbers), script generated (kicad-library-utils/schlib/autogen/connector/); ki_fp_filters: Connector*:*_2x??_*; Datasheet: ~; Description_: Generic connector, double row, 02x02, odd/even pin numbering scheme (row 1 odd numbers, row 2 even numbers), script generated (kicad-library-utils/schlib/autogen/connector/); ki_keywords: connector
pins: 1 Pin_1, 2 Pin_2, 3 Pin_3, 4 Pin_4

## Conn_02x02_Row_Letter_First
designator *  value Conn_02x02_Row_Letter_First  Reference: J
Generic connector, double row, 02x02, row letter first pin numbering scheme (pin number consists of a letter for the row and a number for the pin index in this row. a1, ..., aN; b1, ..., bN), script generated (kicad-library-utils/schlib/autogen/connector/); ki_fp_filters: Connector*:*_2x??_*; Datasheet: ~; Description_: Generic connector, double row, 02x02, row letter first pin numbering scheme (pin number consists of a letter for the row and a number for the pin index in this row. a1, ..., aN; b1, ..., bN), script generated (kicad-library-utils/schlib/autogen/connector/); ki_keywords: connector
pins: a1 Pin_a1, a2 Pin_a2, b1 Pin_b1, b2 Pin_b2

## Conn_02x02_Row_Letter_Last
designator *  value Conn_02x02_Row_Letter_Last  Reference: J
Generic connector, double row, 02x02, row letter last pin numbering scheme (pin number consists of a letter for the row and a number for the pin index in this row. 1a, ..., Na; 1b, ..., Nb)), script generated (kicad-library-utils/schlib/autogen/connector/); ki_fp_filters: Connector*:*_2x??_*; Datasheet: ~; Description_: Generic connector, double row, 02x02, row letter last pin numbering scheme (pin number consists of a letter for the row and a number for the pin index in this row. 1a, ..., Na; 1b, ..., Nb)), script generated (kicad-library-utils/schlib/autogen/connector/); ki_keywords: connector
pins: 1a Pin_1a, 1b Pin_1b, 2a Pin_2a, 2b Pin_2b

## Conn_02x02_Top_Bottom
designator J?  value Conn_02x02_Top_Bottom  Reference: J
Generic connector, double row, 02x02, top/bottom pin numbering scheme (row 1: 1...pins_per_row, row2: pins_per_row+1 ... num_pins), script generated (kicad-library-utils/schlib/autogen/connector/); ki_fp_filters: Connector*:*_2x??_*; Datasheet: ~; Description_: Generic connector, double row, 02x02, top/bottom pin numbering scheme (row 1: 1...pins_per_row, row2: pins_per_row+1 ... num_pins), script generated (kicad-library-utils/schlib/autogen/connector/); ki_keywords: connector
footprint Molex_Micro-Fit_3.0_43045-0400_2x02_P3.00mm_Horizontal
pins: 1 Pin_1, 2 Pin_2, 3 Pin_3, 4 Pin_4

## Conn_02x03_Counter_Clockwise
designator *  value Conn_02x03_Counter_Clockwise  Reference: J
Generic connector, double row, 02x03, counter clockwise pin numbering scheme (similar to DIP package numbering), script generated (kicad-library-utils/schlib/autogen/connector/); ki_fp_filters: Connector*:*_2x??_*; Datasheet: ~; Description_: Generic connector, double row, 02x03, counter clockwise pin numbering scheme (similar to DIP package numbering), script generated (kicad-library-utils/schlib/autogen/connector/); ki_keywords: connector
pins: 1 Pin_1, 2 Pin_2, 3 Pin_3, 4 Pin_4, 5 Pin_5, 6 Pin_6

## Conn_02x03_Odd_Even
designator *  value Conn_02x03_Odd_Even  Reference: J
Generic connector, double row, 02x03, odd/even pin numbering scheme (row 1 odd numbers, row 2 even numbers), script generated (kicad-library-utils/schlib/autogen/connector/); ki_fp_filters: Connector*:*_2x??_*; Datasheet: ~; Description_: Generic connector, double row, 02x03, odd/even pin numbering scheme (row 1 odd numbers, row 2 even numbers), script generated (kicad-library-utils/schlib/autogen/connector/); ki_keywords: connector
pins: 1 Pin_1, 2 Pin_2, 3 Pin_3, 4 Pin_4, 5 Pin_5, 6 Pin_6

## Conn_02x03_Row_Letter_First
designator *  value Conn_02x03_Row_Letter_First  Reference: J
Generic connector, double row, 02x03, row letter first pin numbering scheme (pin number consists of a letter for the row and a number for the pin index in this row. a1, ..., aN; b1, ..., bN), script generated (kicad-library-utils/schlib/autogen/connector/); ki_fp_filters: Connector*:*_2x??_*; Datasheet: ~; Description_: Generic connector, double row, 02x03, row letter first pin numbering scheme (pin number consists of a letter for the row and a number for the pin index in this row. a1, ..., aN; b1, ..., bN), script generated (kicad-library-utils/schlib/autogen/connector/); ki_keywords: connector
pins: a1 Pin_a1, a2 Pin_a2, a3 Pin_a3, b1 Pin_b1, b2 Pin_b2, b3 Pin_b3

## Conn_02x03_Row_Letter_Last
designator *  value Conn_02x03_Row_Letter_Last  Reference: J
Generic connector, double row, 02x03, row letter last pin numbering scheme (pin number consists of a letter for the row and a number for the pin index in this row. 1a, ..., Na; 1b, ..., Nb)), script generated (kicad-library-utils/schlib/autogen/connector/); ki_fp_filters: Connector*:*_2x??_*; Datasheet: ~; Description_: Generic connector, double row, 02x03, row letter last pin numbering scheme (pin number consists of a letter for the row and a number for the pin index in this row. 1a, ..., Na; 1b, ..., Nb)), script generated (kicad-library-utils/schlib/autogen/connector/); ki_keywords: connector
pins: 1a Pin_1a, 1b Pin_1b, 2a Pin_2a, 2b Pin_2b, 3a Pin_3a, 3b Pin_3b

## Conn_02x03_Top_Bottom
designator J?  value Conn_02x03_Top_Bottom  Reference: J
Generic connector, double row, 02x03, top/bottom pin numbering scheme (row 1: 1...pins_per_row, row2: pins_per_row+1 ... num_pins), script generated (kicad-library-utils/schlib/autogen/connector/); ki_fp_filters: Connector*:*_2x??_*; Datasheet: ~; Description_: Generic connector, double row, 02x03, top/bottom pin numbering scheme (row 1: 1...pins_per_row, row2: pins_per_row+1 ... num_pins), script generated (kicad-library-utils/schlib/autogen/connector/); ki_keywords: connector
footprint Molex_Micro-Fit_3.0_43045-0600_2x03_P3.00mm_Horizontal
pins: 1 Pin_1, 2 Pin_2, 3 Pin_3, 4 Pin_4, 5 Pin_5, 6 Pin_6

## Conn_02x04_Counter_Clockwise
designator *  value Conn_02x04_Counter_Clockwise  Reference: J
Generic connector, double row, 02x04, counter clockwise pin numbering scheme (similar to DIP package numbering), script generated (kicad-library-utils/schlib/autogen/connector/); ki_fp_filters: Connector*:*_2x??_*; Datasheet: ~; Description_: Generic connector, double row, 02x04, counter clockwise pin numbering scheme (similar to DIP package numbering), script generated (kicad-library-utils/schlib/autogen/connector/); ki_keywords: connector
pins: 1 Pin_1, 2 Pin_2, 3 Pin_3, 4 Pin_4, 5 Pin_5, 6 Pin_6, 7 Pin_7, 8 Pin_8

## Conn_02x04_Odd_Even
designator *  value Conn_02x04_Odd_Even  Reference: J
Generic connector, double row, 02x04, odd/even pin numbering scheme (row 1 odd numbers, row 2 even numbers), script generated (kicad-library-utils/schlib/autogen/connector/); ki_fp_filters: Connector*:*_2x??_*; Datasheet: ~; Description_: Generic connector, double row, 02x04, odd/even pin numbering scheme (row 1 odd numbers, row 2 even numbers), script generated (kicad-library-utils/schlib/autogen/connector/); ki_keywords: connector
pins: 1 Pin_1, 2 Pin_2, 3 Pin_3, 4 Pin_4, 5 Pin_5, 6 Pin_6, 7 Pin_7, 8 Pin_8

## Conn_02x04_Row_Letter_First
designator *  value Conn_02x04_Row_Letter_First  Reference: J
Generic connector, double row, 02x04, row letter first pin numbering scheme (pin number consists of a letter for the row and a number for the pin index in this row. a1, ..., aN; b1, ..., bN), script generated (kicad-library-utils/schlib/autogen/connector/); ki_fp_filters: Connector*:*_2x??_*; Datasheet: ~; Description_: Generic connector, double row, 02x04, row letter first pin numbering scheme (pin number consists of a letter for the row and a number for the pin index in this row. a1, ..., aN; b1, ..., bN), script generated (kicad-library-utils/schlib/autogen/connector/); ki_keywords: connector
pins: a1 Pin_a1, a2 Pin_a2, a3 Pin_a3, a4 Pin_a4, b1 Pin_b1, b2 Pin_b2, b3 Pin_b3, b4 Pin_b4

## Conn_02x04_Row_Letter_Last
designator *  value Conn_02x04_Row_Letter_Last  Reference: J
Generic connector, double row, 02x04, row letter last pin numbering scheme (pin number consists of a letter for the row and a number for the pin index in this row. 1a, ..., Na; 1b, ..., Nb)), script generated (kicad-library-utils/schlib/autogen/connector/); ki_fp_filters: Connector*:*_2x??_*; Datasheet: ~; Description_: Generic connector, double row, 02x04, row letter last pin numbering scheme (pin number consists of a letter for the row and a number for the pin index in this row. 1a, ..., Na; 1b, ..., Nb)), script generated (kicad-library-utils/schlib/autogen/connector/); ki_keywords: connector
pins: 1a Pin_1a, 1b Pin_1b, 2a Pin_2a, 2b Pin_2b, 3a Pin_3a, 3b Pin_3b, 4a Pin_4a, 4b Pin_4b

## Conn_02x04_Top_Bottom
designator J?  value Conn_02x04_Top_Bottom  Reference: J
Generic connector, double row, 02x04, top/bottom pin numbering scheme (row 1: 1...pins_per_row, row2: pins_per_row+1 ... num_pins), script generated (kicad-library-utils/schlib/autogen/connector/); ki_fp_filters: Connector*:*_2x??_*; Datasheet: ~; Description_: Generic connector, double row, 02x04, top/bottom pin numbering scheme (row 1: 1...pins_per_row, row2: pins_per_row+1 ... num_pins), script generated (kicad-library-utils/schlib/autogen/connector/); ki_keywords: connector
footprint Molex_Micro-Fit_3.0_43045-0800_2x04_P3.00mm_Horizontal
pins: 1 Pin_1, 2 Pin_2, 3 Pin_3, 4 Pin_4, 5 Pin_5, 6 Pin_6, 7 Pin_7, 8 Pin_8

## Conn_02x05_Counter_Clockwise
designator *  value Conn_02x05_Counter_Clockwise  Reference: J
Generic connector, double row, 02x05, counter clockwise pin numbering scheme (similar to DIP package numbering), script generated (kicad-library-utils/schlib/autogen/connector/); ki_fp_filters: Connector*:*_2x??_*; Datasheet: ~; Description_: Generic connector, double row, 02x05, counter clockwise pin numbering scheme (similar to DIP package numbering), script generated (kicad-library-utils/schlib/autogen/connector/); ki_keywords: connector
pins: 1 Pin_1, 2 Pin_2, 3 Pin_3, 4 Pin_4, 5 Pin_5, 6 Pin_6, 7 Pin_7, 8 Pin_8, 9 Pin_9, 10 Pin_10

## Conn_02x05_Odd_Even
designator *  value Conn_02x05_Odd_Even  Reference: J
Generic connector, double row, 02x05, odd/even pin numbering scheme (row 1 odd numbers, row 2 even numbers), script generated (kicad-library-utils/schlib/autogen/connector/); ki_fp_filters: Connector*:*_2x??_*; Datasheet: ~; Description_: Generic connector, double row, 02x05, odd/even pin numbering scheme (row 1 odd numbers, row 2 even numbers), script generated (kicad-library-utils/schlib/autogen/connector/); ki_keywords: connector
pins: 1 Pin_1, 2 Pin_2, 3 Pin_3, 4 Pin_4, 5 Pin_5, 6 Pin_6, 7 Pin_7, 8 Pin_8, 9 Pin_9, 10 Pin_10

## Conn_02x05_Row_Letter_First
designator *  value Conn_02x05_Row_Letter_First  Reference: J
Generic connector, double row, 02x05, row letter first pin numbering scheme (pin number consists of a letter for the row and a number for the pin index in this row. a1, ..., aN; b1, ..., bN), script generated (kicad-library-utils/schlib/autogen/connector/); ki_fp_filters: Connector*:*_2x??_*; Datasheet: ~; Description_: Generic connector, double row, 02x05, row letter first pin numbering scheme (pin number consists of a letter for the row and a number for the pin index in this row. a1, ..., aN; b1, ..., bN), script generated (kicad-library-utils/schlib/autogen/connector/); ki_keywords: connector
pins: a1 Pin_a1, a2 Pin_a2, a3 Pin_a3, a4 Pin_a4, a5 Pin_a5, b1 Pin_b1, b2 Pin_b2, b3 Pin_b3, b4 Pin_b4, b5 Pin_b5

## Conn_02x05_Row_Letter_Last
designator *  value Conn_02x05_Row_Letter_Last  Reference: J
Generic connector, double row, 02x05, row letter last pin numbering scheme (pin number consists of a letter for the row and a number for the pin index in this row. 1a, ..., Na; 1b, ..., Nb)), script generated (kicad-library-utils/schlib/autogen/connector/); ki_fp_filters: Connector*:*_2x??_*; Datasheet: ~; Description_: Generic connector, double row, 02x05, row letter last pin numbering scheme (pin number consists of a letter for the row and a number for the pin index in this row. 1a, ..., Na; 1b, ..., Nb)), script generated (kicad-library-utils/schlib/autogen/connector/); ki_keywords: connector
pins: 1a Pin_1a, 1b Pin_1b, 2a Pin_2a, 2b Pin_2b, 3a Pin_3a, 3b Pin_3b, 4a Pin_4a, 4b Pin_4b, 5a Pin_5a, 5b Pin_5b

## Conn_02x05_Top_Bottom
designator J?  value Conn_02x05_Top_Bottom  Reference: J
Generic connector, double row, 02x05, top/bottom pin numbering scheme (row 1: 1...pins_per_row, row2: pins_per_row+1 ... num_pins), script generated (kicad-library-utils/schlib/autogen/connector/); ki_fp_filters: Connector*:*_2x??_*; Datasheet: ~; Description_: Generic connector, double row, 02x05, top/bottom pin numbering scheme (row 1: 1...pins_per_row, row2: pins_per_row+1 ... num_pins), script generated (kicad-library-utils/schlib/autogen/connector/); ki_keywords: connector
footprint Molex_Micro-Fit_3.0_43045-1000_2x05_P3.00mm_Horizontal
pins: 1 Pin_1, 2 Pin_2, 3 Pin_3, 4 Pin_4, 5 Pin_5, 6 Pin_6, 7 Pin_7, 8 Pin_8, 9 Pin_9, 10 Pin_10

## Conn_02x06_Counter_Clockwise
designator *  value Conn_02x06_Counter_Clockwise  Reference: J
Generic connector, double row, 02x06, counter clockwise pin numbering scheme (similar to DIP package numbering), script generated (kicad-library-utils/schlib/autogen/connector/); ki_fp_filters: Connector*:*_2x??_*; Datasheet: ~; Description_: Generic connector, double row, 02x06, counter clockwise pin numbering scheme (similar to DIP package numbering), script generated (kicad-library-utils/schlib/autogen/connector/); ki_keywords: connector
pins: 1 Pin_1, 2 Pin_2, 3 Pin_3, 4 Pin_4, 5 Pin_5, 6 Pin_6, 7 Pin_7, 8 Pin_8, 9 Pin_9, 10 Pin_10, 11 Pin_11, 12 Pin_12

## Conn_02x06_Odd_Even
designator *  value Conn_02x06_Odd_Even  Reference: J
Generic connector, double row, 02x06, odd/even pin numbering scheme (row 1 odd numbers, row 2 even numbers), script generated (kicad-library-utils/schlib/autogen/connector/); ki_fp_filters: Connector*:*_2x??_*; Datasheet: ~; Description_: Generic connector, double row, 02x06, odd/even pin numbering scheme (row 1 odd numbers, row 2 even numbers), script generated (kicad-library-utils/schlib/autogen/connector/); ki_keywords: connector
pins: 1 Pin_1, 2 Pin_2, 3 Pin_3, 4 Pin_4, 5 Pin_5, 6 Pin_6, 7 Pin_7, 8 Pin_8, 9 Pin_9, 10 Pin_10, 11 Pin_11, 12 Pin_12

## Conn_02x06_Row_Letter_First
designator *  value Conn_02x06_Row_Letter_First  Reference: J
Generic connector, double row, 02x06, row letter first pin numbering scheme (pin number consists of a letter for the row and a number for the pin index in this row. a1, ..., aN; b1, ..., bN), script generated (kicad-library-utils/schlib/autogen/connector/); ki_fp_filters: Connector*:*_2x??_*; Datasheet: ~; Description_: Generic connector, double row, 02x06, row letter first pin numbering scheme (pin number consists of a letter for the row and a number for the pin index in this row. a1, ..., aN; b1, ..., bN), script generated (kicad-library-utils/schlib/autogen/connector/); ki_keywords: connector
pins: a1 Pin_a1, a2 Pin_a2, a3 Pin_a3, a4 Pin_a4, a5 Pin_a5, a6 Pin_a6, b1 Pin_b1, b2 Pin_b2, b3 Pin_b3, b4 Pin_b4, b5 Pin_b5, b6 Pin_b6

## Conn_02x06_Row_Letter_Last
designator *  value Conn_02x06_Row_Letter_Last  Reference: J
Generic connector, double row, 02x06, row letter last pin numbering scheme (pin number consists of a letter for the row and a number for the pin index in this row. 1a, ..., Na; 1b, ..., Nb)), script generated (kicad-library-utils/schlib/autogen/connector/); ki_fp_filters: Connector*:*_2x??_*; Datasheet: ~; Description_: Generic connector, double row, 02x06, row letter last pin numbering scheme (pin number consists of a letter for the row and a number for the pin index in this row. 1a, ..., Na; 1b, ..., Nb)), script generated (kicad-library-utils/schlib/autogen/connector/); ki_keywords: connector
pins: 1a Pin_1a, 1b Pin_1b, 2a Pin_2a, 2b Pin_2b, 3a Pin_3a, 3b Pin_3b, 4a Pin_4a, 4b Pin_4b, 5a Pin_5a, 5b Pin_5b, 6a Pin_6a, 6b Pin_6b

## Conn_02x06_Top_Bottom
designator *  value Conn_02x06_Top_Bottom  Reference: J
Generic connector, double row, 02x06, top/bottom pin numbering scheme (row 1: 1...pins_per_row, row2: pins_per_row+1 ... num_pins), script generated (kicad-library-utils/schlib/autogen/connector/); ki_fp_filters: Connector*:*_2x??_*; Datasheet: ~; Description_: Generic connector, double row, 02x06, top/bottom pin numbering scheme (row 1: 1...pins_per_row, row2: pins_per_row+1 ... num_pins), script generated (kicad-library-utils/schlib/autogen/connector/); ki_keywords: connector
pins: 1 Pin_1, 2 Pin_2, 3 Pin_3, 4 Pin_4, 5 Pin_5, 6 Pin_6, 7 Pin_7, 8 Pin_8, 9 Pin_9, 10 Pin_10, 11 Pin_11, 12 Pin_12

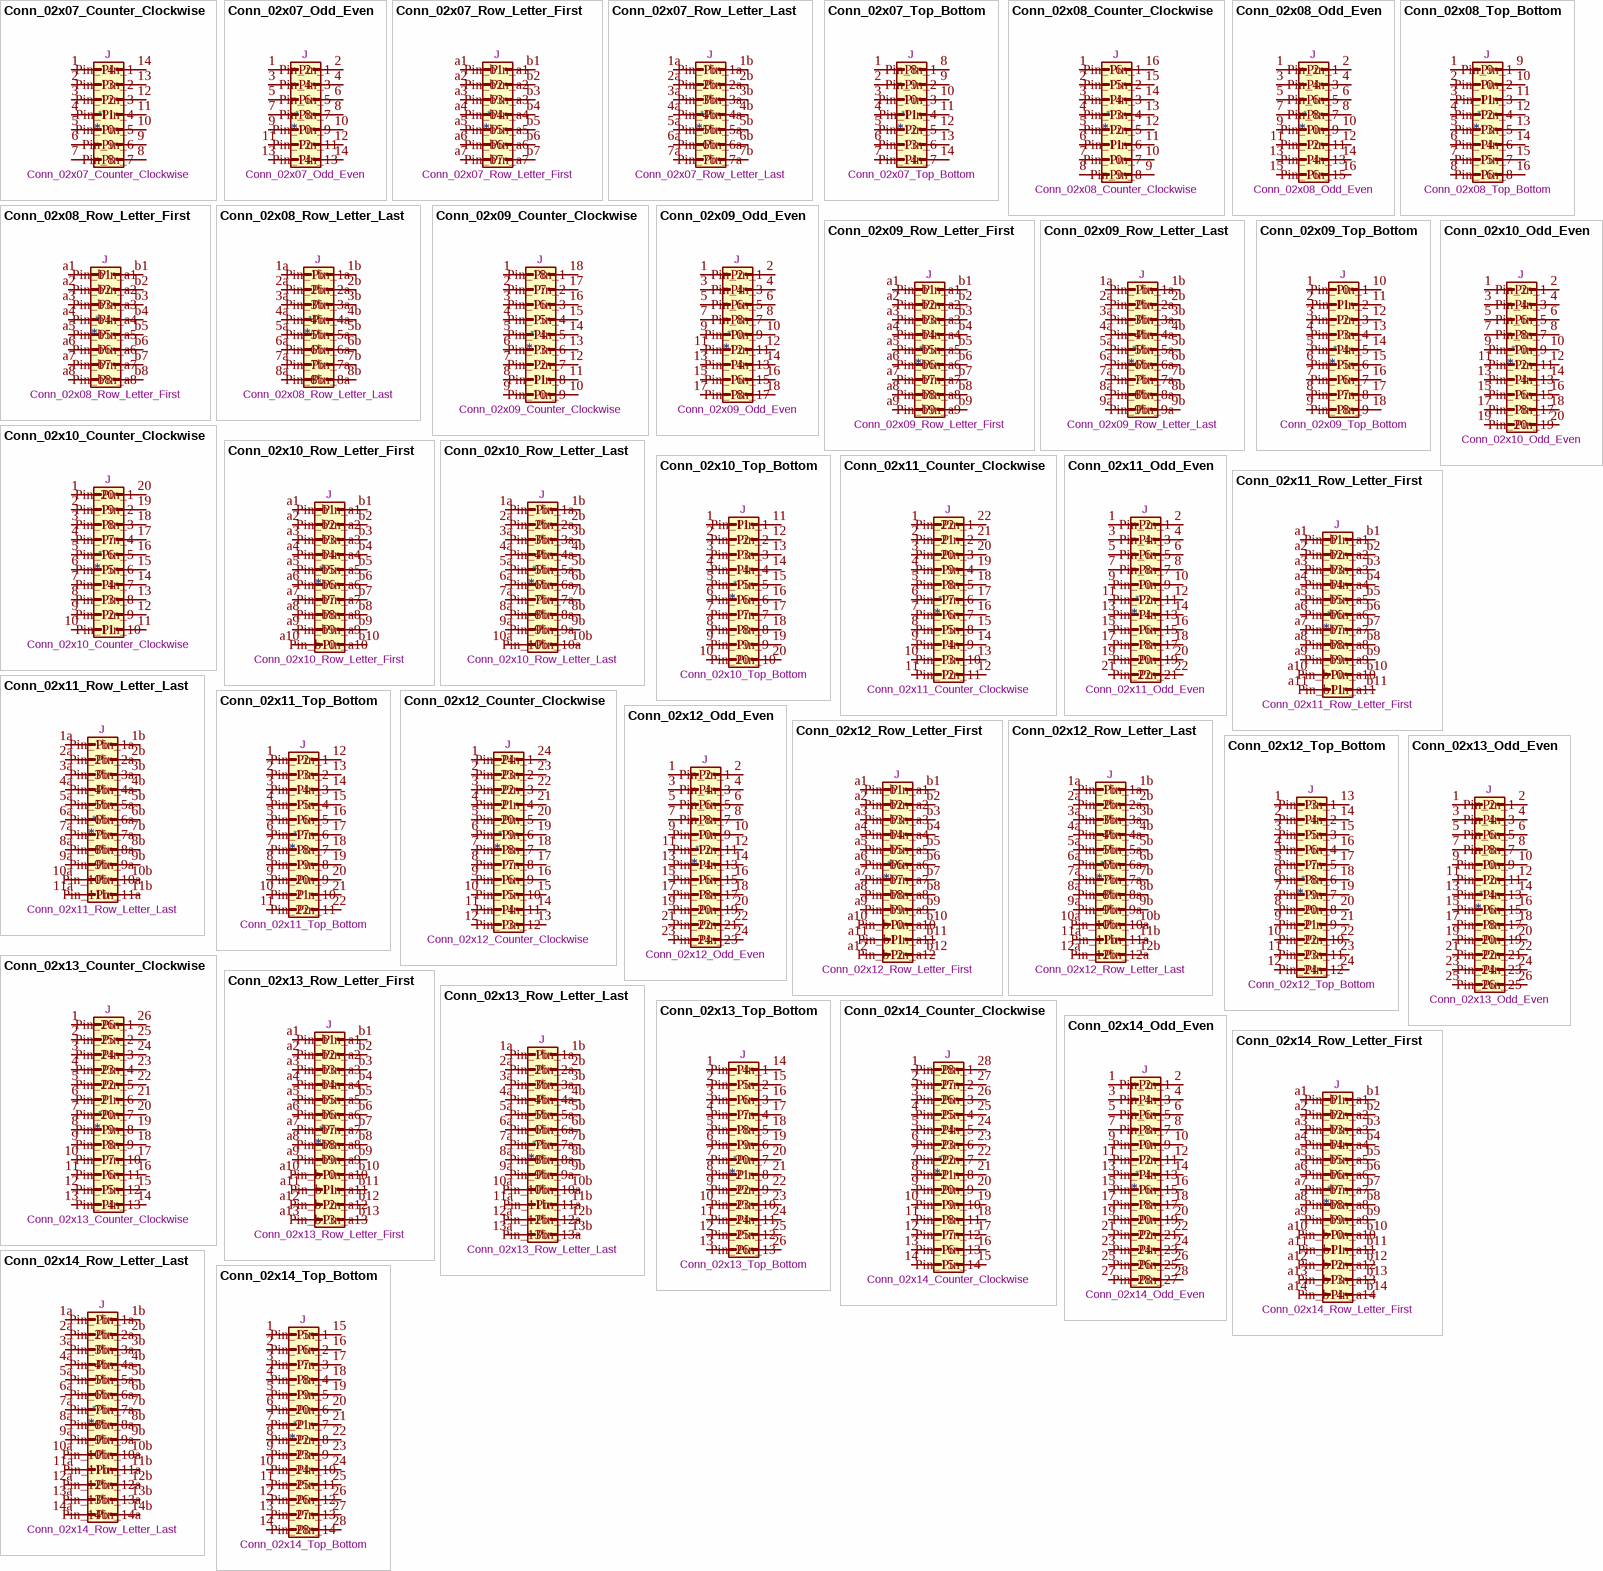
[diagram p4: symbols Conn_02x07_Counter_Clockwise to Conn_02x14_Top_Bottom]

## Conn_02x07_Counter_Clockwise
designator *  value Conn_02x07_Counter_Clockwise  Reference: J
Generic connector, double row, 02x07, counter clockwise pin numbering scheme (similar to DIP package numbering), script generated (kicad-library-utils/schlib/autogen/connector/); ki_fp_filters: Connector*:*_2x??_*; Datasheet: ~; Description_: Generic connector, double row, 02x07, counter clockwise pin numbering scheme (similar to DIP package numbering), script generated (kicad-library-utils/schlib/autogen/connector/); ki_keywords: connector
pins: 1 Pin_1, 2 Pin_2, 3 Pin_3, 4 Pin_4, 5 Pin_5, 6 Pin_6, 7 Pin_7, 8 Pin_8, 9 Pin_9, 10 Pin_10, 11 Pin_11, 12 Pin_12, 13 Pin_13, 14 Pin_14

## Conn_02x07_Odd_Even
designator *  value Conn_02x07_Odd_Even  Reference: J
Generic connector, double row, 02x07, odd/even pin numbering scheme (row 1 odd numbers, row 2 even numbers), script generated (kicad-library-utils/schlib/autogen/connector/); ki_fp_filters: Connector*:*_2x??_*; Datasheet: ~; Description_: Generic connector, double row, 02x07, odd/even pin numbering scheme (row 1 odd numbers, row 2 even numbers), script generated (kicad-library-utils/schlib/autogen/connector/); ki_keywords: connector
pins: 1 Pin_1, 2 Pin_2, 3 Pin_3, 4 Pin_4, 5 Pin_5, 6 Pin_6, 7 Pin_7, 8 Pin_8, 9 Pin_9, 10 Pin_10, 11 Pin_11, 12 Pin_12, 13 Pin_13, 14 Pin_14

## Conn_02x07_Row_Letter_First
designator *  value Conn_02x07_Row_Letter_First  Reference: J
Generic connector, double row, 02x07, row letter first pin numbering scheme (pin number consists of a letter for the row and a number for the pin index in this row. a1, ..., aN; b1, ..., bN), script generated (kicad-library-utils/schlib/autogen/connector/); ki_fp_filters: Connector*:*_2x??_*; Datasheet: ~; Description_: Generic connector, double row, 02x07, row letter first pin numbering scheme (pin number consists of a letter for the row and a number for the pin index in this row. a1, ..., aN; b1, ..., bN), script generated (kicad-library-utils/schlib/autogen/connector/); ki_keywords: connector
pins: a1 Pin_a1, a2 Pin_a2, a3 Pin_a3, a4 Pin_a4, a5 Pin_a5, a6 Pin_a6, a7 Pin_a7, b1 Pin_b1, b2 Pin_b2, b3 Pin_b3, b4 Pin_b4, b5 Pin_b5, b6 Pin_b6, b7 Pin_b7

## Conn_02x07_Row_Letter_Last
designator *  value Conn_02x07_Row_Letter_Last  Reference: J
Generic connector, double row, 02x07, row letter last pin numbering scheme (pin number consists of a letter for the row and a number for the pin index in this row. 1a, ..., Na; 1b, ..., Nb)), script generated (kicad-library-utils/schlib/autogen/connector/); ki_fp_filters: Connector*:*_2x??_*; Datasheet: ~; Description_: Generic connector, double row, 02x07, row letter last pin numbering scheme (pin number consists of a letter for the row and a number for the pin index in this row. 1a, ..., Na; 1b, ..., Nb)), script generated (kicad-library-utils/schlib/autogen/connector/); ki_keywords: connector
pins: 1a Pin_1a, 1b Pin_1b, 2a Pin_2a, 2b Pin_2b, 3a Pin_3a, 3b Pin_3b, 4a Pin_4a, 4b Pin_4b, 5a Pin_5a, 5b Pin_5b, 6a Pin_6a, 6b Pin_6b, 7a Pin_7a, 7b Pin_7b

## Conn_02x07_Top_Bottom
designator *  value Conn_02x07_Top_Bottom  Reference: J
Generic connector, double row, 02x07, top/bottom pin numbering scheme (row 1: 1...pins_per_row, row2: pins_per_row+1 ... num_pins), script generated (kicad-library-utils/schlib/autogen/connector/); ki_fp_filters: Connector*:*_2x??_*; Datasheet: ~; Description_: Generic connector, double row, 02x07, top/bottom pin numbering scheme (row 1: 1...pins_per_row, row2: pins_per_row+1 ... num_pins), script generated (kicad-library-utils/schlib/autogen/connector/); ki_keywords: connector
pins: 1 Pin_1, 2 Pin_2, 3 Pin_3, 4 Pin_4, 5 Pin_5, 6 Pin_6, 7 Pin_7, 8 Pin_8, 9 Pin_9, 10 Pin_10, 11 Pin_11, 12 Pin_12, 13 Pin_13, 14 Pin_14

## Conn_02x08_Counter_Clockwise
designator *  value Conn_02x08_Counter_Clockwise  Reference: J
Generic connector, double row, 02x08, counter clockwise pin numbering scheme (similar to DIP package numbering), script generated (kicad-library-utils/schlib/autogen/connector/); ki_fp_filters: Connector*:*_2x??_*; Datasheet: ~; Description_: Generic connector, double row, 02x08, counter clockwise pin numbering scheme (similar to DIP package numbering), script generated (kicad-library-utils/schlib/autogen/connector/); ki_keywords: connector
pins: 1 Pin_1, 2 Pin_2, 3 Pin_3, 4 Pin_4, 5 Pin_5, 6 Pin_6, 7 Pin_7, 8 Pin_8, 9 Pin_9, 10 Pin_10, 11 Pin_11, 12 Pin_12, 13 Pin_13, 14 Pin_14, 15 Pin_15, 16 Pin_16